# Altium schematic symbol library MediaControllerSchLib.SchLib: 18 symbols
Pins are listed as number, name and electrical type; pins without a type are passive.

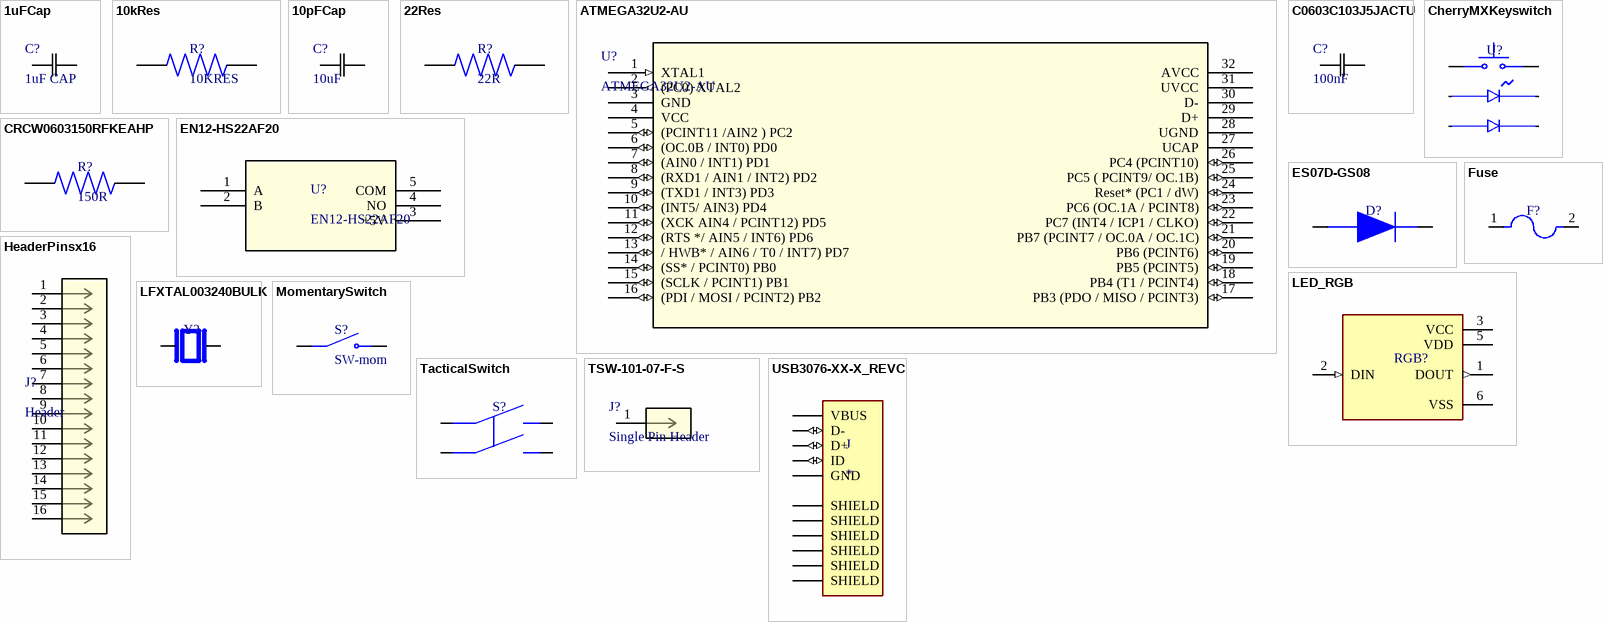
[diagram p0: symbols 1uFCap to USB3076-XX-X_REVC]

## 1uFCap
designator C?, comment 1uF CAP
KEMET - C0603C105K8PACTU - SMD Multilayer Ceramic Capacitor, 1 µF, 10 V, 0603 [1608 Metric], ± 10%, X5R, C Series KEMET; Voltage: 10V; Supplier 1: Digi-Key; Supplier Part Number 1: 399-3118-1-ND; Manufacturer: KEMET; Manufacturer Part Number: C0603C105K8PACTU; RoHS: Yes; Category: Ceramic Capacitors; Stock 1: 16016; Pricing 1: 1=0.10000, 10=0.05600, 50=0.03040, 100=0.02480, 500=0.01772, 1000=0.01392 (USD); Mount: Surface Mount; Case/Package: 0603; Number of Pins: 2; Dielectric Material: Ceramic; Case Code (Imperial): 0603; Case Code (Metric): 1608; Weight: 7.1E-05oz; Min Operating Temperature: -55°C; Max Operating Temperature: 85°C; Tolerance: 10%; Capacitance: 1uF; Packaging: Tape and Reel; Dielectric: X5R; Termination: SMD/SMT; Voltage Rating (DC): 10V; Package Quantity: 1; Voltage Rating: 10V; Series: C; Construction: Flat; Length: 1.6mm; Width: 0.031inch; Height: 0.8mm; Depth: 0.8mm; Thickness: 0.035inch; Radiation Hardening: No; Lead Free: Lead Free; REACH SVHC: No SVHC; RoHS Compliant: Yes; ComponentLink1URL: https://datasheet.ciiva.com/11787/0900766b8116eb59-11787747.pdf?src-supplier=RSComponents; ComponentLink1Description: https://datasheet.ciiva.com/11787/0900766b8116eb59-11787747.pdf?src-supplier=RSComponents; ComponentLink2URL: https://datasheet.ciiva.com/6074/40889-6074647.pdf?src-supplier=Farnell; ComponentLink2Description: https://datasheet.ciiva.com/6074/40889-6074647.pdf?src-supplier=Farnell; ComponentLink3URL: https://datasheet.ciiva.com/26847/getdatasheetpartid-385480-26847548.pdf?src-supplier=Verical; ComponentLink3Description: https://datasheet.ciiva.com/26847/getdatasheetpartid-385480-26847548.pdf?src-supplier=Verical; ComponentLink4URL: https://datasheet.ciiva.com/7823/40889-7823998.pdf?src-supplier=Element14; ComponentLink4Description: https://datasheet.ciiva.com/7823/40889-7823998.pdf?src-supplier=Element14; ComponentLink5URL: https://datasheet.ciiva.com/7823/1929483-7823999.pdf?src-supplier=Element14; ComponentLink5Description: https://datasheet.ciiva.com/7823/1929483-7823999.pdf?src-supplier=Element14; ComponentLink6URL: https://datasheet.ciiva.com/28645/1831760-28645655.pdf?src-supplier=Element14; ComponentLink6Description: https://datasheet.ciiva.com/28645/1831760-28645655.pdf?src-supplier=Element14
footprint 1UFCAP
footprint 1UFCAP-L
footprint 1UFCAP-M
pins: 1, 2

## 10kRes
designator R?, comment 10KRES
Res Thick Film 0603 10K Ohm 5% 1/10W ±200ppm/°C Molded SMD; Manufacturer: Vishay Dale; Manufacturer Part Number: RCG060310K0JNEA; Voltage Rating: 75V; Resistance: 10kR; Power Rating: 100mW; Supplier 1: Digi-Key; Supplier Part Number 1: 541-1804-1-ND; RoHS: Yes; Category: Resistors; Stock 1: 1090; Pricing 1: 1=0.10000, 10=0.08700, 100=0.03340, 1000=0.01467, 2500=0.01267 (USD); Case/Package: 0603; Weight: 7.1E-05oz; Case Code (Metric): 1608; Case Code (Imperial): 0603; Min Operating Temperature: -55°C; Max Operating Temperature: 155°C; Packaging: Tape and Reel; Package Quantity: 1; Tolerance: 5%; Resistor Type: Thick Film; Number of Terminations: 2; Max Power Dissipation: 100mW; Temperature Coefficient: 200ppm/°C; Length: 0.061inch; Width: 0.033inch; Height: 0.02inch; RoHS Compliant: Yes; ComponentLink1URL: https://datasheet.ciiva.com/18596/rcge3-18596768.pdf?src-supplier=Digi-Key; ComponentLink1Description: https://datasheet.ciiva.com/18596/rcge3-18596768.pdf?src-supplier=Digi-Key
footprint RES0603
pins: 1, 2

## 10pFCap
designator C?, comment 10uF
Multilayer Ceramic Capacitors MLCC - SMD/SMT 50V 10pF C0G 0603 5%; Manufacturer_Part_Number: CBR06C100J5GAC; Vendor: Kemet; SourceLibrary: Kemet_2020-03-25_3; Built_By: EMA_Frank; Source_Library: Kemet_2020-03-25_3.xlr; Type: DEV; Copyright: Copyright (C) 2021 Accelerated Designs. All rights reserved; RefDes: RefDes
footprint CAPC17090_87N_KEM
footprint CAPC17090_87N_KEM
footprint CAPC17090_87N_KEM-L
footprint CAPC17090_87N_KEM-M
pins: 1, 2

## 22Res
designator R?, comment 22R
RES SMD 22 OHM 5% 1/4W 0603; Manufacturer: Vishay Dale; Manufacturer Part Number: RCS060322R0JNEA; Max Power Dissipation: 250mW; Temperature Coefficient: 200ppm/°C; Supplier 1: Digi-Key; Supplier Part Number 1: 541-2809-1-ND; RoHS: Yes; Category: Chip SMD Resistors; Stock 1: 8840; Pricing 1: 1=0.15000, 10=0.13500, 100=0.05180, 1000=0.02277, 2500=0.01966 (USD); Case/Package: 0603; Case Code (Metric): 1608; Case Code (Imperial): 0603; Min Operating Temperature: -55°C; Max Operating Temperature: 155°C; Packaging: Tape and Reel; Resistance: 22R; Resistor Type: Thick Film; Number of Terminations: 2; Tolerance: 5%; Features: Automotive AEC-Q200; Length: 0.061inch; Width: 0.033inch; Height: 0.02inch; ComponentLink1URL: http://www.vishay.com/docs/20065/rcse3.pdf?src-supplier=Digi-Key; ComponentLink1Description: http://www.vishay.com/docs/20065/rcse3.pdf?src-supplier=Digi-Key
footprint RES0603_22OHM
pins: 1, 2

## ATMEGA32U2-AU
designator U?
8-bit Microcontroller with 8/16/32K Bytes of ISP Flash and USB Controller; Built_By: EMA_UL_Team; Vendor: Atmel; SourceLibrary: Atmel_2011-04-02; Manufacturer_Part_Number: ATMEGA32U2-AU; Copyright: Copyright (C) 2021 Accelerated Designs. All rights reserved; RefDes: RefDes; Type: DEV
footprint 32A_ATM
footprint 32A_ATM-L
footprint 32A_ATM-M
pins: 1 XTAL1 (in), 2 (PC0) XTAL2 (out), 3 GND (power), 4 VCC (power), 5 (PCINT11 /AIN2 ) PC2 (io), 6 (OC.0B / INT0) PD0 (io), 7 (AIN0 / INT1) PD1 (io), 8 (RXD1 / AIN1 / INT2) PD2 (io), 9 (TXD1 / INT3) PD3 (io), 10 (INT5/ AIN3) PD4 (io), 11 (XCK AIN4 / PCINT12) PD5 (io), 12 (RTS */ AIN5 / INT6) PD6 (io), 13 / HWB* / AIN6 / T0 / INT7) PD7 (io), 14 (SS* / PCINT0) PB0 (io), 15 (SCLK / PCINT1) PB1 (io), 16 (PDI / MOSI / PCINT2) PB2 (io), 17 PB3 (PDO / MISO / PCINT3) (io), 18 PB4 (T1 / PCINT4) (io), 19 PB5 (PCINT5) (io), 20 PB6 (PCINT6) (io), 21 PB7 (PCINT7 / OC.0A / OC.1C) (io), 22 PC7 (INT4 / ICP1 / CLKO) (io), 23 PC6 (OC.1A / PCINT8) (io), 24 Reset* (PC1 / dW) (io), 25 PC5 ( PCINT9/ OC.1B) (io), 26 PC4 (PCINT10) (io), 27 UCAP (power), 28 UGND (power), 29 D+, 30 D-, 31 UVCC (power), 32 AVCC (power)

## C0603C103J5JACTU
designator C?, comment 100nF
CAP CER 10000PF 50V U2J 0603; Manufacturer: KEMET; Manufacturer Part Number: C0603C103J5JACTU; Capacitance: 10nF; Tolerance: 5%; Supplier 1: Digi-Key; Supplier Part Number 1: 399-13384-1-ND; RoHS: Yes; Category: Ceramic Capacitors; Stock 1: 2465; Pricing 1: 1=0.30000, 10=0.20400, 50=0.13560, 100=0.11530, 500=0.08142, 1000=0.07124 (USD); Mount: Surface Mount; Case/Package: 0603; Case Code (Metric): 1608; Case Code (Imperial): 0603; Min Operating Temperature: -55°C; Max Operating Temperature: 125°C; Packaging: Cut Tape; Voltage Rating: 50V; Dielectric: U2J; Length: 0.063inch; Width: 0.032inch; Thickness: 0.034inch; REACH SVHC: No SVHC; RoHS Compliant: Yes; ComponentLink1URL: http://www.farnell.com/datasheets/2600114.pdf?src-supplier=Farnell; ComponentLink1Description: http://www.farnell.com/datasheets/2600114.pdf?src-supplier=Farnell; ComponentLink2URL: http://www.farnell.com/datasheets/2157975.pdf?src-supplier=Element14; ComponentLink2Description: http://www.farnell.com/datasheets/2157975.pdf?src-supplier=Element14; ComponentLink3URL: https://api.kemet.com/component-edge/download/datasheet/C0603C103J5JAC7867.pdf?src-supplier=Digi-Key; ComponentLink3Description: https://api.kemet.com/component-edge/download/datasheet/C0603C103J5JAC7867.pdf?src-supplier=Digi-Key; ComponentLink4URL: http://www.kemet.com/docfinder?Partnumber=C0603C103J5JAC7867&src-supplier=Digi-Key; ComponentLink4Description: http://www.kemet.com/docfinder?Partnumber=C0603C103J5JAC7867&src-supplier=Digi-Key
footprint CAPC0603_87N_KEM
footprint CAPC0603_87N_KEM-L
footprint CAPC0603_87N_KEM-M
pins: 1, 2

## CherryMXKeyswitch
designator U?, comment Switch  (value not drawn)
ZF CHERRY   MX1A-E1NN   SWITCH, TACTILE, SPST-NO, 10mA, THOUGH HOLE; Number of Terminals/Pins: 2; Mechanical Life: 20000000Cycles; Voltage Rating (AC): 12V; Throw Configuration: SPST; Contact Resistance: 200mR; Operating Force: 0.5N; Illumination Type: Illuminated; Switch Function: Off-Mom; Row Spacing: 2.54mm; Actuator Length: 3.6mm; Supplier 1: Digi-Key; Supplier Part Number 1: CH196-ND; Manufacturer: Cherry; Manufacturer Part Number: MX1A-E1NN; RoHS: Yes; Category: Pushbutton Switches; Stock 1: 7601; Pricing 1: 1=1.07000, 10=0.95700, 25=0.90880, 50=0.86460, 100=0.82420, 250=0.78780, 500=0.70700, 1000=0.66660 (USD); Mount: Panel,Front,Through Hole; Number of Pins: 2; Contact Material: Gold,Silver; Contact Plating: Gold; Housing Material: Thermoplastic; Min Operating Temperature: -10°C; Max Operating Temperature: 70°C; Voltage Rating (DC): 12V; Max Current Rating: 10mA; Current Rating: 10mA; Packaging: Bulk; Max Voltage Rating (AC): 12V; Max Voltage Rating (DC): 12V; Termination: PC Pin; Electrical Life: 20000000Cycles; Orientation: Straight; Contact Current Rating: 10mA; Series: MX; Length: 15.6mm; Width: 15.6mm; Terminal Pitch: 6.35mm; REACH SVHC: No SVHC; Lead Free: Lead Free; RoHS Compliant: Yes; ComponentLink1URL: https://datasheet.ciiva.com/2870/mxseries-2870411.pdf?src-supplier=Digi-Key; ComponentLink1Description: https://datasheet.ciiva.com/2870/mxseries-2870411.pdf?src-supplier=Digi-Key
footprint CHERRYMX_5PIN (Cherry MX 5 pin mechanical keyboard switch)
pins: 1, 2, 3, 4, 5, 6

## CRCW0603150RFKEAHP
designator R?, comment 150R
Res Thick Film 0603 150 Ohm 1% 0.33W(1/3W) ±100ppm/°C Pad SMD Automotive T/R; Manufacturer: Vishay; Manufacturer Part Number: CRCW0603150RFKEAHP; Power Rating: 250mW; Voltage Rating: 75V; Supplier 1: Digi-Key; Supplier Part Number 1: 541-150SCT-ND; RoHS: Yes; Category: Chip SMD Resistors; Stock 1: 10924; Pricing 1: 1=0.17000, 10=0.14800, 100=0.05790, 1000=0.02422, 2500=0.02220 (USD); Mount: Surface Mount; Case/Package: 0603; Case Code (Metric): 1608; Case Code (Imperial): 0603; Contact Plating: Tin; Weight: 7.1E-05oz; Min Operating Temperature: -55°C; Max Operating Temperature: 155°C; Package Quantity: 1; Resistance: 150R; Tolerance: 1%; Packaging: Tape and Reel; Resistor Type: Thick Film; Number of Terminations: 2; Max Power Dissipation: 250mW; Temperature Coefficient: 100ppm/°C; Features: Automotive AEC-Q200; Series: CRCW-HP; Termination: SMD/SMT; Voltage Rating (DC): 75V; Technology: THICK FILM; Resistance Tolerance: 1%; Construction: Rectangular; Length: 1.55mm; Width: 0.033inch; Height: 0.45mm; Depth: 0.85mm; Radiation Hardening: No; Lead Free: Lead Free; RoHS Compliant: Yes; REACH SVHC: Unknown; Military Standard: Not; ComponentLink1URL: https://datasheet.ciiva.com/6551/crcwhpe3-6551676.pdf?src-supplier=Digi-Key; ComponentLink1Description: https://datasheet.ciiva.com/6551/crcwhpe3-6551676.pdf?src-supplier=Digi-Key; ComponentLink2URL: https://datasheet.ciiva.com/12559/crcwhpe3-46056-12559198.pdf?src-supplier=Mouser; ComponentLink2Description: https://datasheet.ciiva.com/12559/crcwhpe3-46056-12559198.pdf?src-supplier=Mouser
footprint RES0608_150OHM
pins: 1, 2

## EN12-HS22AF20
designator U?
BI TECHNOLOGIES / TT ELECTRONICS         EN12-HS22AF20             INCREMENTAL ENCODER; Manufacturer: TT BI; Number of Channels: 2; Operating Supply Voltage: 5V; Encoder Type: Mechanical; Pulses per Revolution: 24; Detent: Yes; Output Type: Quadrature,Incremental; Actuator Type: Shaft; Supplier 1: Digi-Key; Supplier Part Number 1: 987-1195-ND; Manufacturer Part Number: EN12-HS22AF20; RoHS: Yes; Category: Uncategorized; Stock 1: 1275; Pricing 1: 1=1.31000, 5=1.23800, 10=1.15900, 25=1.06400, 40=0.99375, 80=0.89688, 230=0.84839, 440=0.79991, 945=0.75144 (USD); Mount: Through Hole,PCB; Min Operating Temperature: -30°C; Max Operating Temperature: 85°C; Package Quantity: 300; Packaging: Bulk; Nominal Supply Voltage (DC): 5V; Termination: PC Pin; Orientation: Vertical; Built in Switch: Yes; Series: EN12; REACH SVHC: No SVHC; Lead Free: Lead Free; RoHS Compliant: Yes; ComponentLink1URL: https://datasheet.ciiva.com/30179/en12-30179331.pdf?src-supplier=Onlinecomponents.com; ComponentLink1Description: https://datasheet.ciiva.com/30179/en12-30179331.pdf?src-supplier=Onlinecomponents.com; ComponentLink2URL: https://datasheet.ciiva.com/1311/219240-1311686.pdf?src-supplier=Element14; ComponentLink2Description: https://datasheet.ciiva.com/1311/219240-1311686.pdf?src-supplier=Element14
footprint EN12-HS_TTE
pins: 1 A, 2 B, 3 +5V, 4 NO, 5 COM

## ES07D-GS08
designator D?, comment RectifierDiode  (value not drawn)
VISHAY - ES07D-GS08 - Fast / Ultrafast Diode, 200 V, 1.2 A, Single, 980 mV, 25 ns, 30 A; Supplier 1: Digi-Key; Supplier Part Number 1: ES07D-GS08CT-ND; Manufacturer: Vishay; Manufacturer Part Number: ES07D-GS08; RoHS: Yes; Category: Rectifier Diodes; Stock 1: 4306; Pricing 1: 1=0.45000, 10=0.36200, 100=0.24640, 500=0.18480, 1000=0.13860 (USD); RoHS Compliant: Yes; ComponentLink1URL: http://www.farnell.com/datasheets/2046053.pdf?src-supplier=Farnell; ComponentLink1Description: http://www.farnell.com/datasheets/2046053.pdf?src-supplier=Farnell
footprint DO-219AB_VIS
footprint DO-219AB_VIS-L
footprint DO-219AB_VIS-M
pins: 1, 2

## Fuse
designator F?, comment 500mAFuse  (value not drawn)
Fuse Chip Fast Acting 0.5A 350V Solder Pad SMD 2410 Ceramic T/R; Manufacturer: Bel; Manufacturer Part Number: 0679H0500-05; Fuse Type: Board Mount (Cartridge Style Excluded); Current Rating: 500mA; Voltage Rating (DC): 72V; DC Cold Resistance: 240mR; Approvals: cURus; Supplier 1: Digi-Key; Supplier Part Number 1: 507-2043-2-ND; RoHS: Yes; Category: Fuses; Stock 1: 5000; Pricing 1: 5000=0.14057, 10000=0.13120 (USD); Mount: Surface Mount; Case/Package: 2410; Case Code (Imperial): 2410; Case Code (Metric): 6125; Min Operating Temperature: -55°C; Max Operating Temperature: 125°C; Packaging: Tape and Reel; Voltage Rating (AC): 350V; RoHS Compliant: Yes; ComponentLink1URL: https://www.mouser.com/ds/2/643/0679H_Jan_2017-1131342.pdf?src-supplier=Mouser; ComponentLink1Description: https://www.mouser.com/ds/2/643/0679H_Jan_2017-1131342.pdf?src-supplier=Mouser; ComponentLink2URL: https://www.belfuse.com/resources/CircuitProtection/datasheets/0679H%20Jan%202017.pdf?src-supplier=Digi-Key; ComponentLink2Description: https://www.belfuse.com/resources/CircuitProtection/datasheets/0679H%20Jan%202017.pdf?src-supplier=Digi-Key
footprint FUSC6125X279N
pins: 1, 2

## HeaderPinsx16
designator J?, comment Header
Conn Unshrouded Header HDR 16 POS 2.54mm Solder ST Top Entry Thru-Hole BergStik® Bulk; Manufacturer: Amphenol ICC; Manufacturer Part Number: 67996-416HLF; Supplier 1: Digi-Key; Supplier Part Number 1: 609-3220-ND; RoHS: Yes; Category: Headers and Wire Housings; Stock 1: 13; Pricing 1: 1=0.60000, 10=0.56600, 100=0.43420, 500=0.37760, 1000=0.31152, 5000=0.27376, 10000=0.25488 (USD); ComponentLink1URL: http://www.farnell.com/cad/1876884.pdf?src-supplier=Farnell; ComponentLink1Description: http://www.farnell.com/cad/1876884.pdf?src-supplier=Farnell; ComponentLink2URL: http://www.farnell.com/cad/1876884.pdf?src-supplier=Element14; ComponentLink2Description: http://www.farnell.com/cad/1876884.pdf?src-supplier=Element14; ComponentLink3URL: http://www.farnell.com/cad/1876884.pdf?src-supplier=Newark; ComponentLink3Description: http://www.farnell.com/cad/1876884.pdf?src-supplier=Newark
footprint HeaderPinsx16
pins: 1, 2, 3, 4, 5, 6, 7, 8, 9, 10, 11, 12, 13, 14, 15, 16

## LED_RGB
designator RGB?, comment RGB-LED  (value not drawn)
ADDRESS LED DISCRETE SERIAL RGB; Manufacturer: SparkFun; Manufacturer Part Number: COM-11821; Number of LEDs: 1; Supplier 1: Digi-Key; Supplier Part Number 1: 1568-1800-ND; RoHS: No; Stock 1: 3968; Pricing 1: 1=0.50000 (USD); Mount: Surface Mount; Color: Blue,Green,Red; Interface: Serial; Length: 5mm; Width: 5mm; ComponentLink1URL: https://media.digikey.com/pdf/Data%20Sheets/Sparkfun%20PDFs/WS2812_Breakout_Hookup_Guide.pdf?src-supplier=Digi-Key; ComponentLink1Description: https://media.digikey.com/pdf/Data%20Sheets/Sparkfun%20PDFs/WS2812_Breakout_Hookup_Guide.pdf?src-supplier=Digi-Key; ComponentLink2URL: http://cdn.sparkfun.com/datasheets/Components/LED/WS2812.pdf?src-supplier=Digi-Key; ComponentLink2Description: http://cdn.sparkfun.com/datasheets/Components/LED/WS2812.pdf?src-supplier=Digi-Key
footprint LED_RGB
pins: 1 DOUT (out), 2 DIN (in), 3 VCC (power), 5 VDD (power), 6 VSS (power)

## LFXTAL003240BULK
designator Y?  (value not drawn)
16MHz Â±30ppm Crystal 30pF 40 Ohms HC-49/US; MP: LFXTAL003240BULK; MF: IQD Frequency Products; Price: None; SnapEDA_Link: https://www.snapeda.com/parts/LFXTAL003240BULK/IQD%20Frequency%20Products/view-part/2463585/?ref=snap; Availability: Unavailable; Value: *; Package: HC-49/US IQD Frequency Products; Supplier 1: Digi-Key; Supplier Part Number 1: 1923-1433-ND
footprint LFXTAL003240BULK (CRYSTAL 16.0000MHZ 30PF TH)
pins: 1, 2

## MomentarySwitch
designator S?, comment SW-mom
Switch Key N.O. SPST 0.1A 32VDC 3VA 1.3N PC Pins Thru-Hole Box; Manufacturer: ITT C&K; Manufacturer Part Number: D6R90F1LFS; Number of Terminals/Pins: 4; Current Rating: 100mA; Voltage Rating (DC): 32V; Power Rating: 3W; Electrical Life: 250000Cycles; Switch Function: Off-Mom; Actuator Type: Round, Button; Row Spacing: 5mm; Actuator Length: 7mm; Supplier 1: Digi-Key; Supplier Part Number 1: 401-1978-ND; RoHS: Yes; Category: Pushbutton Switches; Stock 1: 34393; Pricing 1: 1=1.12000, 10=1.00100, 25=0.95040, 40=0.90400, 80=0.86175, 230=0.82370, 440=0.73920, 945=0.69696 (USD); Mount: Through Hole; Color: Black; Contact Plating: Silver; Housing Material: Nylon; Min Operating Temperature: -20°C; Max Operating Temperature: 85°C; Package Quantity: 2500; Packaging: Tray; Operating Force: 1.3N; Contact Current Rating: 100mA; Max Voltage Rating (DC): 32V; Throw Configuration: SPST; Max Current Rating: 100mA; Termination: PC Pin; Voltage Rating: 32V; Orientation: Straight; Series: D6; Diameter: 12mm; Terminal Pitch: 5mm; Lead Free: Lead Free; RoHS Compliant: Yes; ComponentLink1URL: https://datasheet.ciiva.com/2869/d6-31aug10-2869536.pdf?src-supplier=Digi-Key; ComponentLink1Description: https://datasheet.ciiva.com/2869/d6-31aug10-2869536.pdf?src-supplier=Digi-Key; ComponentLink2URL: https://datasheet.ciiva.com/18149/d6-31aug10-18149532.pdf?src-supplier=Verical; ComponentLink2Description: https://datasheet.ciiva.com/18149/d6-31aug10-18149532.pdf?src-supplier=Verical
footprint MomentarySwitch
pins: 1 COM, 2 COM, 3 NO, 4 NO

## TacticalSwitch
designator S?  (value not drawn)
E-SWITCH - TL3305AF160QG - TACTILE SW, SPST, 0.05A, 12VDC, SOLDER; Mechanical Life: 500000Cycles; Illumination Type: Non-Illuminated; Operating Force: 160gf; Switch Travel: 0.2mm; Switch Function: Off-Mom; Actuator Type: Standard; Supplier 1: Digi-Key; Supplier Part Number 1: EG5350CT-ND; Manufacturer: E-Switch; Manufacturer Part Number: TL3305AF160QG; RoHS: Yes; Category: Tactile Switches; Stock 1: 60105; Pricing 1: 1=0.18000, 10=0.17900, 25=0.16960, 100=0.15400, 250=0.14480, 500=0.13246, 1000=0.11090 (USD); Mount: Surface Mount; Min Operating Temperature: -20°C; Max Operating Temperature: 70°C; Packaging: Tape and Reel; Termination: Gull Wing; Throw Configuration: SPST; Lead Free: Lead Free; RoHS Compliant: Yes; ComponentLink1URL: http://www.farnell.com/datasheets/2554191.pdf?src-supplier=Farnell; ComponentLink1Description: http://www.farnell.com/datasheets/2554191.pdf?src-supplier=Farnell; ComponentLink2URL: http://spec_sheets.e-switch.com/specs/P010468.pdf?src-supplier=Digi-Key; ComponentLink2Description: http://spec_sheets.e-switch.com/specs/P010468.pdf?src-supplier=Digi-Key; ComponentLink3URL: http://www.farnell.com/datasheets/2554191.pdf?src-supplier=Newark; ComponentLink3Description: http://www.farnell.com/datasheets/2554191.pdf?src-supplier=Newark
footprint TACTILESWITCH
pins: 1, 2, 3, 4

## TSW-101-07-F-S
designator J?, comment Single Pin Header
Samtec TSW, 1 Way, 1 Row, Straight PCB Header; Manufacturer Part Number: TSW-101-07-F-S; Number of Contacts: 1; Gender: Male; Supplier 1: Digi-Key; Supplier Part Number 1: SAM10323-ND; Manufacturer: Samtec; RoHS: Yes; Category: Connectors; Stock 1: 6946; Pricing 1: 1=0.16000, 10=0.15200, 100=0.10500, 500=0.08888, 1000=0.07272, 5000=0.06464, 10000=0.05858 (USD); Mount: Through Hole; Contact Plating: Gold; Contact Material: Bronze; Contact Shape: Square; Contact Finish - Mating: GOLD; Insulation Material: PBT; Insulation Color: Black; Min Operating Temperature: -55°C; Max Operating Temperature: 125°C; Number of Rows: 1; Termination: Solder; Packaging: Bulk; Connector Type: Header; Fastening Type: Pull; Series: TSW; Contact Type: Male Pin; Number of Positions: 1; Radiation Hardening: No; RoHS Compliant: Yes; REACH SVHC: No SVHC; Flammability Rating: UL94 V-0; ComponentLink1URL: https://datasheet.ciiva.com/10337/htsw-th-10337052.pdf?src-supplier=Avnet; ComponentLink1Description: https://datasheet.ciiva.com/10337/htsw-th-10337052.pdf?src-supplier=Avnet
footprint CON1_1X1_TU_TSW
pins: 1

## USB3076-XX-X_REVC
designator J
USB - micro B USB 2.0 Receptacle Connector 5 Position Surface Mount, Right Angle; Through Hole; MP: USB3076-30-A; MF: Global Connector Technology; Availability: Unavailable; SnapEDA_Link: https://www.snapeda.com/parts/USB3076-30-A/Global%20Connector%20Technology/view-part/276912/?ref=snap; Package: None; Price: None; Value: *; Supplier 1: Digi-Key; Supplier Part Number 1: 2073-USB3076-30-ACT-ND
footprint GCT_USB3076-XX-X_REVC
pins: 1 VBUS (power), 2 D- (io), 3 D+ (io), 4 ID (io), 5 GND (power), 6 SHIELD (power), 7 SHIELD (power), 8 SHIELD (power), 9 SHIELD (power), 10 SHIELD (power), 11 SHIELD (power)